# Altium footprint library 0603_Cx4.PcbLib: 1 footprints
Each footprint in its own frame and in the unit in brackets; x right, y up, seen from the top. Pads: shape width x height; smd on the part's side, far side on the other; paste and mask are expansions set on the pad; w line width, h text height; cw(c..) or ccw(c..) is an arc to the next point about the centre after c.
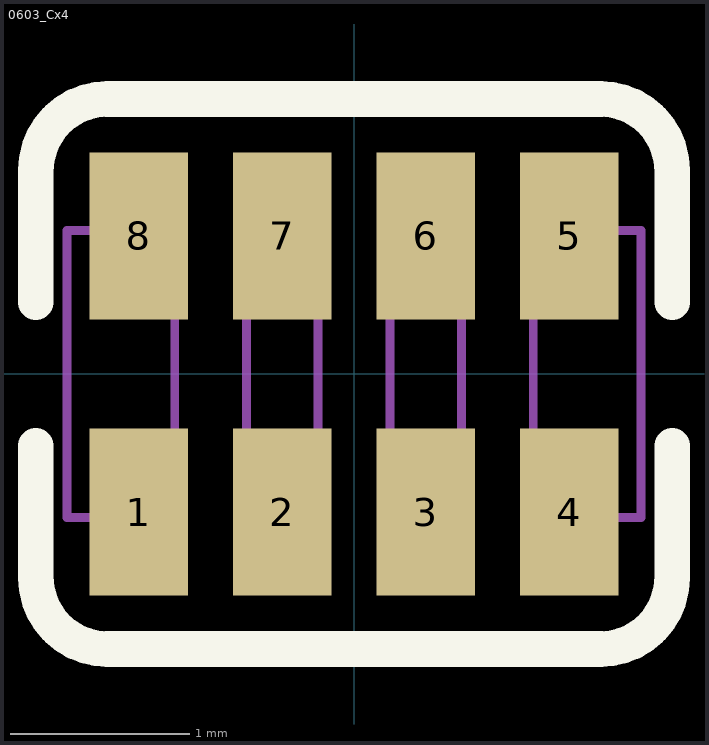
[diagram p0: the footprint, top view; thin cyan lines are the x and y axes]

## 0603_Cx4 [mm]
pads (8):
  rect 0.55x0.93 smd mask+0.051: 1(-1.2,-0.77) 2(-0.4,-0.77) 3(0.4,-0.77) 4(1.2,-0.77) 5(1.2,0.77) 6(0.4,0.77) 7(-0.4,0.77) 8(-1.2,0.77)
Top Overlay:
  lines w0.2: -1.775,-0.4 -1.775,-1.135 ccw(c-1.375,-1.135) -1.375,-1.535 1.375,-1.535 ccw(c1.375,-1.135) 1.775,-1.135 1.775,-0.4 ; -1.775,0.4 -1.775,1.135 cw(c-1.375,1.135) -1.375,1.535 1.375,1.535 cw(c1.375,1.135) 1.775,1.135 1.775,0.4
Mechanical 13:
  lines w0.05: -1.6,-0.8 -1.6,0.8 -1,0.8 -1,-0.8 -1.6,-0.8 ; -0.6,-0.8 -0.6,0.8 -0.2,0.8 -0.2,-0.8 -0.6,-0.8 ; 0.2,-0.8 0.2,0.8 0.6,0.8 0.6,-0.8 0.2,-0.8 ; 1,-0.8 1,0.8 1.6,0.8 1.6,-0.8 1,-0.8